# EAGLE library part SFV25R-1STE1LF (library APU_PayloadBoard_Library)
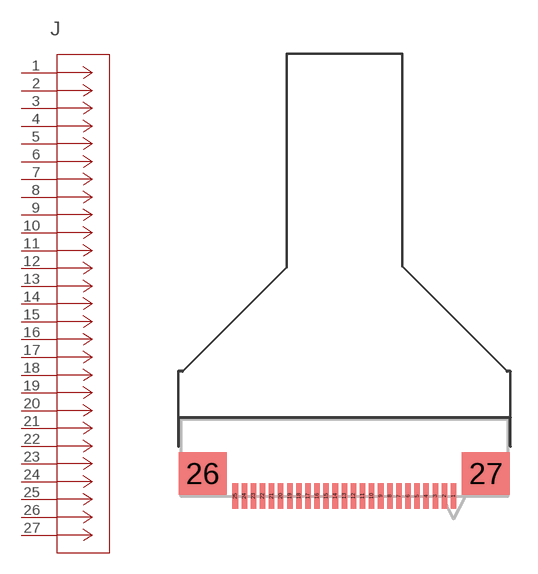
[diagram p2: symbol with the pads of CON25_1X25_DR_SFV_JAE; footprint CON25_1X25_DR_SFV_JAE]

Designator prefix J

## SFV25R-1STE1LFCON25_1X25_DR_SFV_JAE (COPYRIGHT: Copyright (C) 2023 Ultra Librarian. All rights reserved.; MANUFACTURER_PART_NUMBER: SFV25R-1STE1LF; MFR_NAME: JAE Electronics)  [CON25_1X25_DR_SFV_JAE]
1  1  pas
2  2  pas
3  3  pas
4  4  pas
5  5  pas
6  6  pas
7  7  pas
8  8  pas
9  9  pas
10  10  pas
11  11  pas
12  12  pas
13  13  pas
14  14  pas
15  15  pas
16  16  pas
17  17  pas
18  18  pas
19  19  pas
20  20  pas
21  21  pas
22  22  pas
23  23  pas
24  24  pas
25  25  pas
26  26  pas
27  27  pas

## Footprint CON25_1X25_DR_SFV_JAE (pad centres in mm)
smd 0.305 x 1.397: 1 6,-2.095; 2 5.5,-2.095; 3 5,-2.095; 4 4.5,-2.095; 5 4,-2.095; 6 3.5,-2.095; 7 3,-2.095; 8 2.5,-2.095; 9 2,-2.095; 10 1.5,-2.095; 11 1,-2.095; 12 0.5,-2.095; 13 0,-2.095; 14 -0.5,-2.095; 15 -1,-2.095; 16 -1.5,-2.095; 17 -2,-2.095; 18 -2.5,-2.095; 19 -3,-2.095; 20 -3.5,-2.095; 21 -4,-2.095; 22 -4.5,-2.095; 23 -5,-2.095; 24 -5.5,-2.095; 25 -6,-2.095
smd 2.642 x 2.311: 26 -7.785,-0.851; 27 7.785,-0.851